# Altium footprint library DIP-CN  0607.PcbLib: 329 footprints (part 2 of 21)
Each footprint in its own frame and in the unit in brackets; x right, y up, seen from the top. Pads: shape width x height; smd on the part's side, far side on the other; paste and mask are expansions set on the pad; w line width, h text height; cw(c..) or ccw(c..) is an arc to the next point about the centre after c.
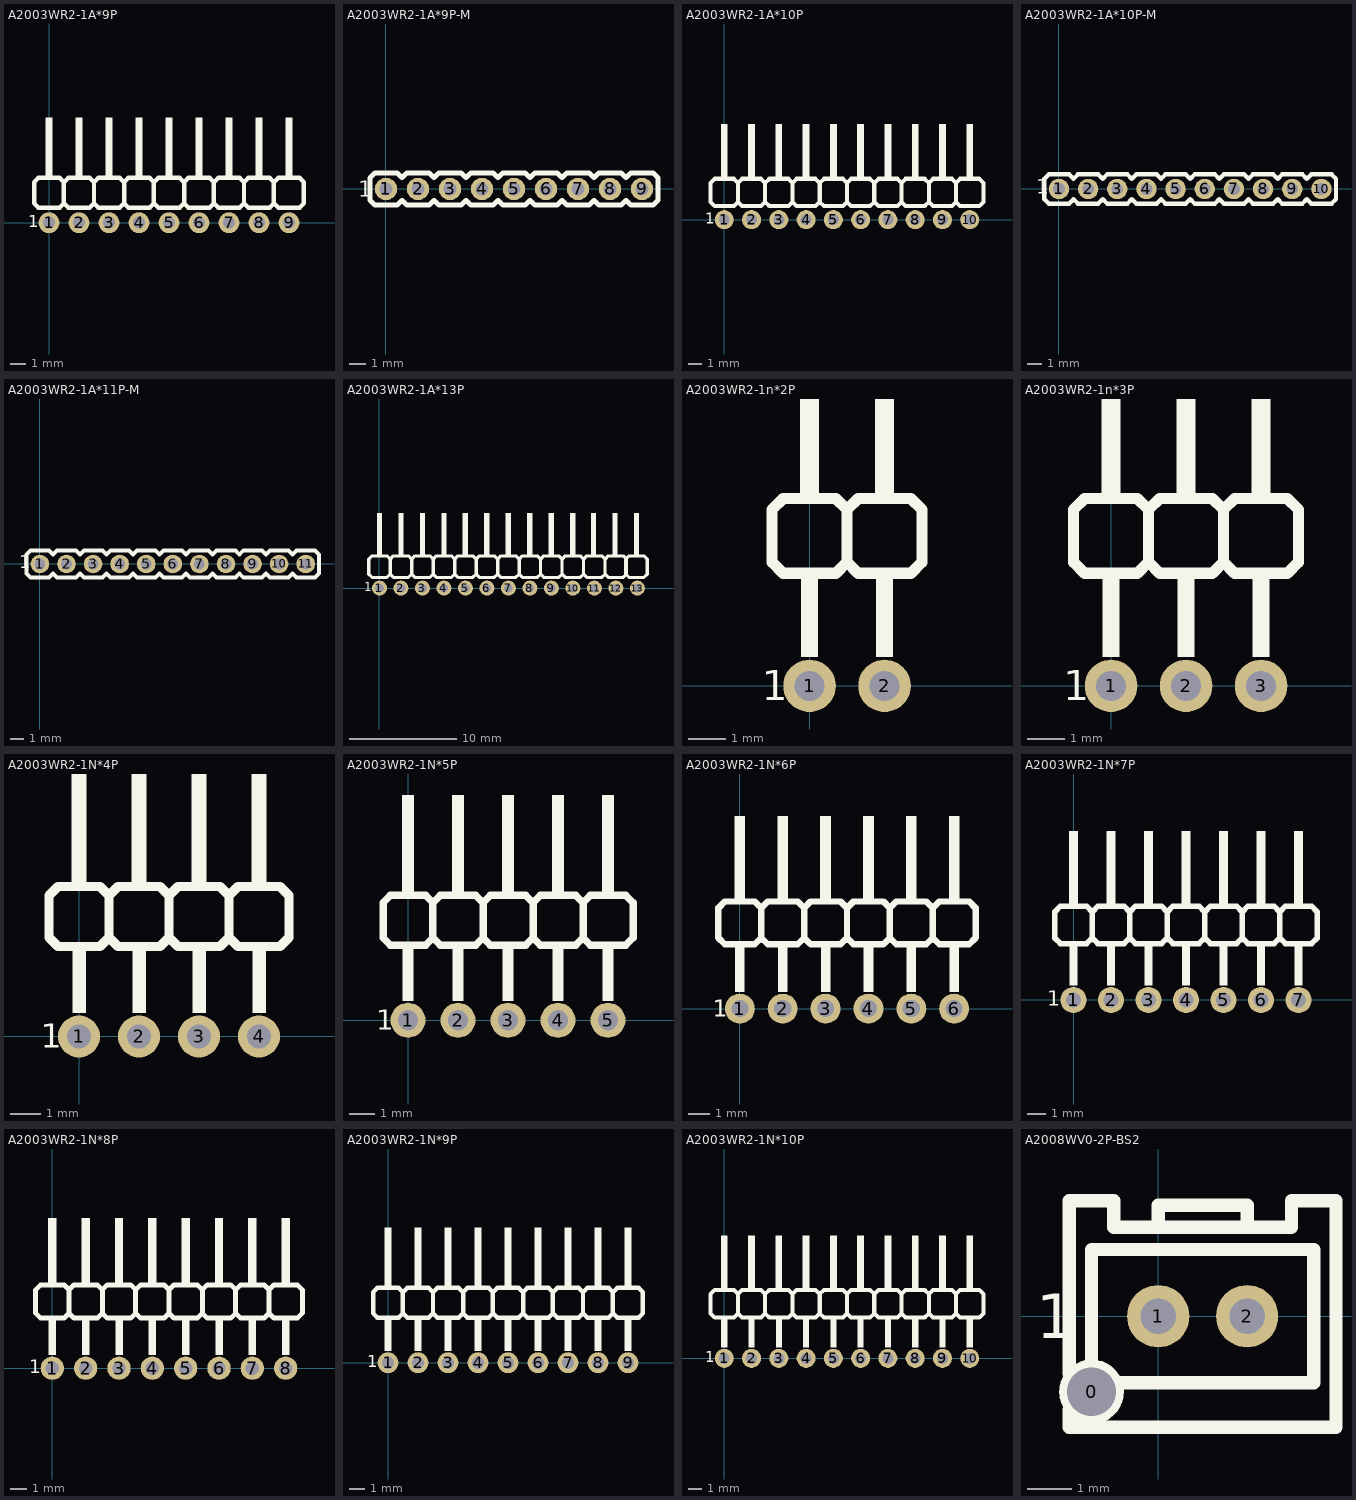
[diagram p1: the footprints below, top view; thin cyan lines are the x and y axes]

## A2003WR2-1A*9P [mm]
pads (9):
  round 1.4 hole 0.8: 1(0,0) 2(2,0) 3(4,0) 4(6,0) 5(8,0) 6(10,0) 7(12,0) 8(14,0) 9(16,0)
TopOverlay:
  region: 16.25,3 16.25,7 15.75,7 15.75,3
  region: 14.25,3 14.25,7 13.75,7 13.75,3
  region: 12.25,3 12.25,7 11.75,7 11.75,3
  region: 10.25,3 10.25,7 9.75,7 9.75,3
  region: 8.25,3 8.25,7 7.75,7 7.75,3
  region: 6.25,3 6.25,7 5.75,7 5.75,3
  region: 4.25,3 4.25,7 3.75,7 3.75,3
  region: 2.25,3 2.25,7 1.75,7 1.75,3
  region: 0.25,3 0.25,7 -0.25,7 -0.25,3
  lines w0.3: 1,1.3 1,2.7 ; 1,1.3 1.3,1 2.7,1 3,1.3 ; 1,1.3 0.7,1 -0.7,1 -1,1.3 -1,2.7 -0.7,3 0.7,3 1,2.7 ; 1,2.7 1.3,3 2.7,3 3,2.7 ; 3,1.3 3,2.7 ; 3,1.3 3.3,1 4.7,1 5,1.3 ; 3,2.7 3.3,3 4.7,3 5,2.7 ; 5,1.3 5,2.7 ; 5,1.3 5.3,1 6.7,1 7,1.3 ; 5,2.7 5.3,3 6.7,3 7,2.7 ; 7,1.3 7,2.7 ; 7,1.3 7.3,1 8.7,1 9,1.3 ; 7,2.7 7.3,3 8.7,3 9,2.7 ; 9,1.3 9,2.7 ; 9,1.3 9.3,1 10.7,1 11,1.3 ; 9,2.7 9.3,3 10.7,3 11,2.7 ; 11,1.3 11,2.7 ; 11,1.3 11.3,1 12.7,1 13,1.3 ; 11,2.7 11.3,3 12.7,3 13,2.7 ; 13,1.3 13,2.7 ; 13,1.3 13.3,1 14.7,1 15,1.3 ; 13,2.7 13.3,3 14.7,3 15,2.7 ; 15,1.3 15,2.7 ; 15,1.3 15.3,1 16.7,1 17,1.3 17,2.7 16.7,3 15.3,3 15,2.7
  text "1" at -1.4,-0.3 h0.8
BottomOverlay:
  lines w0.3: 1,-0.75 1,0.75 ; 3,-0.75 3,0.75 ; 5,-0.75 5,0.75 ; 7,-0.75 7,0.75 ; 9,-0.75 9,0.75 ; 11,-0.75 11,0.75 ; 13,-0.75 13,0.75 ; 15,-0.75 15,0.75

## A2003WR2-1A*9P-M [mm]
pads (9):
  round 1.4 hole 0.8: 1(0,0) 2(2,0) 3(4,0) 4(6,0) 5(8,0) 6(10,0) 7(12,0) 8(14,0) 9(16,0)
TopOverlay:
  lines w0.3: -1,-0.7 -0.7,-1 0.7,-1 1,-0.7 1.3,-1 2.7,-1 3,-0.7 3.3,-1 4.7,-1 5,-0.7 5.3,-1 6.7,-1 7,-0.7 7.3,-1 8.7,-1 9,-0.7 9.3,-1 10.7,-1 11,-0.7 11.3,-1 12.7,-1 13,-0.7 13.3,-1 14.7,-1 15,-0.7 15.3,-1 16.7,-1 17,-0.7 17,0.7 16.7,1 15.3,1 15,0.7 14.7,1 13.3,1 13,0.7 12.7,1 11.3,1 11,0.7 10.7,1 9.3,1 9,0.7 8.7,1 7.3,1 7,0.7 6.7,1 5.3,1 5,0.7 4.7,1 3.3,1 3,0.7 2.7,1 1.3,1 1,0.7 0.7,1 -0.7,1 -1,0.7 -1,-0.7
  text "1" at -1.75,-0.5 h1
BottomOverlay:
  lines w0.3: 1,-0.75 1,0.75 ; 3,-0.75 3,0.75 ; 5,-0.75 5,0.75 ; 7,-0.75 7,0.75 ; 9,-0.75 9,0.75 ; 11,-0.75 11,0.75 ; 13,-0.75 13,0.75 ; 15,-0.75 15,0.75

## A2003WR2-1A*10P [mm]
pads (10):
  round 1.4 hole 0.8: 1(0,0) 2(2,0) 3(4,0) 4(6,0) 5(8,0) 6(10,0) 7(12,0) 8(14,0) 9(16,0) 10(18,0)
TopOverlay:
  region: 0.25,3 0.25,7 -0.25,7 -0.25,3
  region: 2.25,3 2.25,7 1.75,7 1.75,3
  region: 4.25,3 4.25,7 3.75,7 3.75,3
  region: 6.25,3 6.25,7 5.75,7 5.75,3
  region: 8.25,3 8.25,7 7.75,7 7.75,3
  region: 10.25,3 10.25,7 9.75,7 9.75,3
  region: 12.25,3 12.25,7 11.75,7 11.75,3
  region: 14.25,3 14.25,7 13.75,7 13.75,3
  region: 16.25,3 16.25,7 15.75,7 15.75,3
  region: 18.25,3 18.25,7 17.75,7 17.75,3
  lines w0.3: 1,1.3 0.7,1 -0.7,1 -1,1.3 -1,2.7 -0.7,3 0.7,3 1,2.7 ; 1,1.3 1,2.7 ; 1,1.3 1.3,1 2.7,1 3,1.3 ; 1,2.7 1.3,3 2.7,3 3,2.7 ; 3,1.3 3.3,1 4.7,1 5,1.3 ; 3,1.3 3,2.7 ; 3,2.7 3.3,3 4.7,3 5,2.7 ; 5,1.3 5,2.7 ; 5,1.3 5.3,1 6.7,1 7,1.3 ; 5,2.7 5.3,3 6.7,3 7,2.7 ; 7,1.3 7.3,1 8.7,1 9,1.3 ; 7,1.3 7,2.7 ; 7,2.7 7.3,3 8.7,3 9,2.7 ; 9,1.3 9.3,1 10.7,1 11,1.3 ; 9,1.3 9,2.7 ; 9,2.7 9.3,3 10.7,3 11,2.7 ; 11,1.3 11.3,1 12.7,1 13,1.3 ; 11,1.3 11,2.7 ; 11,2.7 11.3,3 12.7,3 13,2.7 ; 13,1.3 13.3,1 14.7,1 15,1.3 ; 13,1.3 13,2.7 ; 13,2.7 13.3,3 14.7,3 15,2.7 ; 15,1.3 15,2.7 ; 15,1.3 15.3,1 16.7,1 17,1.3 ; 15,2.7 15.3,3 16.7,3 17,2.7 ; 17,1.3 17,2.7 ; 17,1.3 17.3,1 18.7,1 19,1.3 19,2.7 18.7,3 17.3,3 17,2.7
  text "1" at -1.4,-0.3 h0.8
BottomOverlay:
  lines w0.3: 1,-0.75 1,0.75 ; 3,-0.75 3,0.75 ; 5,-0.75 5,0.75 ; 7,-0.75 7,0.75 ; 9,-0.75 9,0.75 ; 11,-0.75 11,0.75 ; 13,-0.75 13,0.75 ; 15,-0.75 15,0.75 ; 17,-0.75 17,0.75

## A2003WR2-1A*10P-M [mm]
pads (10):
  round 1.4 hole 0.8: 1(0,0) 2(2,0) 3(4,0) 4(6,0) 5(8,0) 6(10,0) 7(12,0) 8(14,0) 9(16,0) 10(18,0)
TopOverlay:
  lines w0.3: -1,-0.7 -1,0.7 -0.7,1 0.7,1 1,0.7 1.3,1 2.7,1 3,0.7 3.3,1 4.7,1 5,0.7 5.3,1 6.7,1 7,0.7 7.3,1 8.7,1 9,0.7 9.3,1 10.7,1 11,0.7 11.3,1 12.7,1 13,0.7 13.3,1 14.7,1 15,0.7 15.3,1 16.7,1 17,0.7 17.3,1 18.7,1 19,0.7 19,-0.7 18.7,-1 17.3,-1 17,-0.7 16.7,-1 15.3,-1 15,-0.7 14.7,-1 13.3,-1 13,-0.7 12.7,-1 11.3,-1 11,-0.7 10.7,-1 9.3,-1 9,-0.7 8.7,-1 7.3,-1 7,-0.7 6.7,-1 5.3,-1 5,-0.7 4.7,-1 3.3,-1 3,-0.7 2.7,-1 1.3,-1 1,-0.7 0.7,-1 -0.7,-1 -1,-0.7
  text "1" at -1.575,-0.33 h1
BottomOverlay:
  lines w0.3: 1,-0.75 1,0.75 ; 3,-0.75 3,0.75 ; 5,-0.75 5,0.75 ; 7,-0.75 7,0.75 ; 9,-0.75 9,0.75 ; 11,-0.75 11,0.75 ; 13,-0.75 13,0.75 ; 15,-0.75 15,0.75 ; 17,-0.75 17,0.75

## A2003WR2-1A*11P-M [mm]
pads (11):
  round 1.4 hole 0.8: 1(0,0) 2(2,0) 3(4,0) 4(6,0) 5(8,0) 6(10,0) 7(12,0) 8(14,0) 9(16,0) 10(18,0) 11(20,0)
TopOverlay:
  lines w0.3: 18.7,-1 19,-0.7 ; 18.7,-1 17.3,-1 17,-0.7 16.7,-1 15.3,-1 15,-0.7 14.7,-1 13.3,-1 13,-0.7 12.7,-1 11.3,-1 11,-0.7 10.7,-1 9.3,-1 9,-0.7 8.7,-1 7.3,-1 7,-0.7 6.7,-1 5.3,-1 5,-0.7 4.7,-1 3.3,-1 3,-0.7 2.7,-1 1.3,-1 1,-0.7 0.7,-1 -0.7,-1 -1,-0.7 -1,0.7 -0.7,1 0.7,1 1,0.7 1.3,1 2.7,1 3,0.7 3.3,1 4.7,1 5,0.7 5.3,1 6.7,1 7,0.7 7.3,1 8.7,1 9,0.7 9.3,1 10.7,1 11,0.7 11.3,1 12.7,1 13,0.7 13.3,1 14.7,1 15,0.7 15.3,1 16.7,1 17,0.7 17.3,1 18.7,1 ; 18.7,-1 19,-0.7 ; 18.7,1 19,0.7 ; 18.7,1 19,0.7 ; 19,-0.7 19.3,-1 20.7,-1 21,-0.7 21,0.7 20.7,1 19.3,1 19,0.7
  text "1" at -1.575,-0.33 h1
BottomOverlay:
  lines w0.3: 1,-0.75 1,0.75 ; 3,-0.75 3,0.75 ; 5,-0.75 5,0.75 ; 7,-0.75 7,0.75 ; 9,-0.75 9,0.75 ; 11,-0.75 11,0.75 ; 13,-0.75 13,0.75 ; 15,-0.75 15,0.75 ; 17,-0.75 17,0.75 ; 19,-0.75 19,0.75

## A2003WR2-1A*13P [mm]
pads (13):
  round 1.4 hole 0.8: 1(0,0) 2(2,0) 3(4,0) 4(6,0) 5(8,0) 6(10,0) 7(12,0) 8(14,0) 9(16,0) 10(18,0) 11(20,0) 12(22,0) 13(24,0)
TopOverlay:
  region: 18.25,3 18.25,7 17.75,7 17.75,3
  region: 16.25,3 16.25,7 15.75,7 15.75,3
  region: 14.25,3 14.25,7 13.75,7 13.75,3
  region: 12.25,3 12.25,7 11.75,7 11.75,3
  region: 10.25,3 10.25,7 9.75,7 9.75,3
  region: 8.25,3 8.25,7 7.75,7 7.75,3
  region: 6.25,3 6.25,7 5.75,7 5.75,3
  region: 4.25,3 4.25,7 3.75,7 3.75,3
  region: 2.25,3 2.25,7 1.75,7 1.75,3
  region: 0.25,3 0.25,7 -0.25,7 -0.25,3
  region: 20.175,3 20.175,7 19.675,7 19.675,3
  region: 22.175,3 22.175,7 21.675,7 21.675,3
  region: 24.175,3 24.175,7 23.675,7 23.675,3
  lines w0.3: 1,1.3 1.3,1 2.7,1 3,1.3 ; 1,1.3 1,2.7 ; 1,1.3 0.7,1 -0.7,1 -1,1.3 -1,2.7 -0.7,3 0.7,3 1,2.7 ; 1,2.7 1.3,3 2.7,3 3,2.7 ; 3,1.3 3,2.7 ; 3,1.3 3.3,1 4.7,1 5,1.3 ; 3,2.7 3.3,3 4.7,3 5,2.7 ; 5,1.3 5.3,1 6.7,1 7,1.3 ; 5,1.3 5,2.7 ; 5,2.7 5.3,3 6.7,3 7,2.7 ; 7,1.3 7,2.7 ; 7,1.3 7.3,1 8.7,1 9,1.3 ; 7,2.7 7.3,3 8.7,3 9,2.7 ; 9,1.3 9,2.7 ; 9,1.3 9.3,1 10.7,1 11,1.3 ; 9,2.7 9.3,3 10.7,3 11,2.7 ; 11,1.3 11,2.7 ; 11,1.3 11.3,1 12.7,1 13,1.3 ; 11,2.7 11.3,3 12.7,3 13,2.7 ; 13,1.3 13,2.7 ; 13,1.3 13.3,1 14.7,1 15,1.3 ; 13,2.7 13.3,3 14.7,3 15,2.7 ; 15,1.3 15.3,1 16.7,1 17,1.3 ; 15,1.3 15,2.7 ; 15,2.7 15.3,3 16.7,3 17,2.7 ; 17,1.3 17.3,1 18.7,1 19,1.3 ; 17,1.3 17,2.7 ; 17,2.7 17.3,3 18.7,3 19,2.7 ; 19,1.3 19,2.7 ; 19,1.3 19,2.7 ; 19,1.3 19.3,1 20.7,1 21,1.3 ; 19,2.7 19.3,3 20.7,3 21,2.7 ; 21,1.3 21,2.7 ; 21,1.3 21,2.7 ; 21,1.3 21.3,1 22.7,1 23,1.3 23,2.7 22.7,3 21.3,3 21,2.7 ; 22.925,1.3 22.925,2.7 23.225,3 24.625,3 24.925,2.7 24.925,1.3 24.625,1 23.225,1 22.925,1.3
  text "1" at -1.4,-0.3 h0.8
BottomOverlay:
  lines w0.3: 1,-0.75 1,0.75 ; 3,-0.75 3,0.75 ; 5,-0.75 5,0.75 ; 7,-0.75 7,0.75 ; 9,-0.75 9,0.75 ; 11,-0.75 11,0.75 ; 13,-0.75 13,0.75 ; 15,-0.75 15,0.75 ; 17,-0.75 17,0.75 ; 19,-0.75 19,0.75 ; 21,-0.75 21,0.75 ; 23,-0.75 23,0.75

## A2003WR2-1n*2P [mm]
pads (2):
  round 1.4 hole 0.8: 1(0,0) 2(2,0)
TopOverlay:
  region: 0.225,3 -0.225,3 -0.225,0.775 0.225,0.775
  region: 2.225,3 1.775,3 1.775,0.775 2.225,0.775
  region: 0.25,5 0.25,9 -0.25,9 -0.25,5
  region: 2.25,5 2.25,9 1.75,9 1.75,5
  lines w0.3: 1,3.3 0.7,3 -0.7,3 -1,3.3 -1,4.7 -0.7,5 0.7,5 1,4.7 ; 1,3.3 1,4.7 ; 1,3.3 1.3,3 2.7,3 3,3.3 3,4.7 2.7,5 1.3,5 1,4.7
  text "1" at -1.27,-0.381 h0.8
BottomOverlay:
  lines w0.3: 1,-0.75 1,0.75

## A2003WR2-1n*3P [mm]
pads (3):
  round 1.4 hole 0.8: 1(0,0) 2(2,0) 3(4,0)
TopOverlay:
  region: 4.25,5 4.25,9 3.75,9 3.75,5
  region: 2.25,5 2.25,9 1.75,9 1.75,5
  region: 0.25,5 0.25,9 -0.25,9 -0.25,5
  region: 0.225,3 -0.225,3 -0.225,0.775 0.225,0.775
  region: 2.225,3 1.775,3 1.775,0.775 2.225,0.775
  region: 4.225,3 3.775,3 3.775,0.775 4.225,0.775
  lines w0.3: 1,3.3 0.7,3 -0.7,3 -1,3.3 -1,4.7 -0.7,5 0.7,5 1,4.7 ; 1,3.3 1,4.7 ; 1,3.3 1.3,3 2.7,3 3,3.3 ; 1,4.7 1.3,5 2.7,5 3,4.7 ; 3,3.3 3.3,3 4.7,3 5,3.3 5,4.7 4.7,5 3.3,5 3,4.7 ; 3,3.3 3,4.7
  text "1" at -1.27,-0.381 h0.8
BottomOverlay:
  lines w0.3: 1,-0.75 1,0.75 ; 3,-0.75 3,0.75

## A2003WR2-1N*4P [mm]
pads (4):
  round 1.4 hole 0.8: 1(0,0) 2(2,0) 3(4,0) 4(6,0)
TopOverlay:
  region: 6.25,5 6.25,9 5.75,9 5.75,5
  region: 4.25,5 4.25,9 3.75,9 3.75,5
  region: 2.25,5 2.25,9 1.75,9 1.75,5
  region: 0.25,5 0.25,9 -0.25,9 -0.25,5
  region: 0.225,3 -0.225,3 -0.225,0.775 0.225,0.775
  region: 2.225,3 1.775,3 1.775,0.775 2.225,0.775
  region: 4.225,3 3.775,3 3.775,0.775 4.225,0.775
  region: 6.225,3 5.775,3 5.775,0.775 6.225,0.775
  lines w0.3: 1,3.3 0.7,3 -0.7,3 -1,3.3 -1,4.7 -0.7,5 0.7,5 1,4.7 ; 1,3.3 1,4.7 ; 1,3.3 1.3,3 2.7,3 3,3.3 ; 1,4.7 1.3,5 2.7,5 3,4.7 ; 3,3.3 3.3,3 4.7,3 5,3.3 ; 3,3.3 3,4.7 ; 3,4.7 3.3,5 4.7,5 5,4.7 ; 5,3.3 5,4.7 ; 5,3.3 5.3,3 6.7,3 7,3.3 7,4.7 6.7,5 5.3,5 5,4.7
  text "1" at -1.27,-0.381 h0.8
BottomOverlay:
  lines w0.3: 1,-0.75 1,0.75 ; 3,-0.75 3,0.75 ; 5,-0.75 5,0.75

## A2003WR2-1N*5P [mm]
pads (5):
  round 1.4 hole 0.8: 1(0,0) 2(2,0) 3(4,0) 4(6,0) 5(8,0)
TopOverlay:
  region: 8.25,5 8.25,9 7.75,9 7.75,5
  region: 6.25,5 6.25,9 5.75,9 5.75,5
  region: 4.25,5 4.25,9 3.75,9 3.75,5
  region: 2.25,5 2.25,9 1.75,9 1.75,5
  region: 0.25,5 0.25,9 -0.25,9 -0.25,5
  region: 0.225,3 -0.225,3 -0.225,0.775 0.225,0.775
  region: 2.225,3 1.775,3 1.775,0.775 2.225,0.775
  region: 4.225,3 3.775,3 3.775,0.775 4.225,0.775
  region: 6.225,3 5.775,3 5.775,0.775 6.225,0.775
  region: 8.225,3 7.775,3 7.775,0.775 8.225,0.775
  lines w0.3: 1,3.3 0.7,3 -0.7,3 -1,3.3 -1,4.7 -0.7,5 0.7,5 1,4.7 ; 1,3.3 1,4.7 ; 1,3.3 1.3,3 2.7,3 3,3.3 ; 1,4.7 1.3,5 2.7,5 3,4.7 ; 3,3.3 3.3,3 4.7,3 5,3.3 ; 3,3.3 3,4.7 ; 3,4.7 3.3,5 4.7,5 5,4.7 ; 5,3.3 5,4.7 ; 5,3.3 5.3,3 6.7,3 7,3.3 ; 5,4.7 5.3,5 6.7,5 7,4.7 ; 7,3.3 7.3,3 8.7,3 9,3.3 9,4.7 8.7,5 7.3,5 7,4.7 ; 7,3.3 7,4.7
  text "1" at -1.27,-0.381 h0.8
BottomOverlay:
  lines w0.3: 1,-0.75 1,0.75 ; 3,-0.75 3,0.75 ; 5,-0.75 5,0.75 ; 7,-0.75 7,0.75

## A2003WR2-1N*6P [mm]
pads (6):
  round 1.4 hole 0.8: 1(0,0) 2(2,0) 3(4,0) 4(6,0) 5(8,0) 6(10,0)
TopOverlay:
  region: 10.25,5 10.25,9 9.75,9 9.75,5
  region: 8.25,5 8.25,9 7.75,9 7.75,5
  region: 6.25,5 6.25,9 5.75,9 5.75,5
  region: 4.25,5 4.25,9 3.75,9 3.75,5
  region: 2.25,5 2.25,9 1.75,9 1.75,5
  region: 0.25,5 0.25,9 -0.25,9 -0.25,5
  region: 0.225,3 -0.225,3 -0.225,0.775 0.225,0.775
  region: 2.225,3 1.775,3 1.775,0.775 2.225,0.775
  region: 4.225,3 3.775,3 3.775,0.775 4.225,0.775
  region: 6.225,3 5.775,3 5.775,0.775 6.225,0.775
  region: 8.225,3 7.775,3 7.775,0.775 8.225,0.775
  region: 10.225,3 9.775,3 9.775,0.775 10.225,0.775
  lines w0.3: 1,3.3 0.7,3 -0.7,3 -1,3.3 -1,4.7 -0.7,5 0.7,5 1,4.7 ; 1,3.3 1,4.7 ; 1,3.3 1.3,3 2.7,3 3,3.3 ; 1,4.7 1.3,5 2.7,5 3,4.7 ; 3,3.3 3.3,3 4.7,3 5,3.3 ; 3,3.3 3,4.7 ; 3,4.7 3.3,5 4.7,5 5,4.7 ; 5,3.3 5,4.7 ; 5,3.3 5.3,3 6.7,3 7,3.3 ; 5,4.7 5.3,5 6.7,5 7,4.7 ; 7,3.3 7.3,3 8.7,3 9,3.3 ; 7,3.3 7,4.7 ; 7,4.7 7.3,5 8.7,5 9,4.7 ; 9,3.3 9.3,3 10.7,3 11,3.3 11,4.7 10.7,5 9.3,5 9,4.7 ; 9,3.3 9,4.7
  text "1" at -1.27,-0.381 h0.8
BottomOverlay:
  lines w0.3: 1,-0.75 1,0.75 ; 3,-0.75 3,0.75 ; 5,-0.75 5,0.75 ; 7,-0.75 7,0.75 ; 9,-0.75 9,0.75

## A2003WR2-1N*7P [mm]
pads (7):
  round 1.4 hole 0.8: 1(0,0) 2(2,0) 3(4,0) 4(6,0) 5(8,0) 6(10,0) 7(12,0)
TopOverlay:
  region: 0.25,5 0.25,9 -0.25,9 -0.25,5
  region: 2.25,5 2.25,9 1.75,9 1.75,5
  region: 4.25,5 4.25,9 3.75,9 3.75,5
  region: 6.25,5 6.25,9 5.75,9 5.75,5
  region: 8.25,5 8.25,9 7.75,9 7.75,5
  region: 10.25,5 10.25,9 9.75,9 9.75,5
  region: 12.25,5 12.25,9 11.75,9 11.75,5
  region: 0.225,3 -0.225,3 -0.225,0.775 0.225,0.775
  region: 2.225,3 1.775,3 1.775,0.775 2.225,0.775
  region: 4.225,3 3.775,3 3.775,0.775 4.225,0.775
  region: 6.225,3 5.775,3 5.775,0.775 6.225,0.775
  region: 8.225,3 7.775,3 7.775,0.775 8.225,0.775
  region: 10.225,3 9.775,3 9.775,0.775 10.225,0.775
  region: 12.225,3 11.775,3 11.775,0.775 12.225,0.775
  lines w0.3: 1,3.3 1.3,3 2.7,3 3,3.3 ; 1,3.3 1,4.7 ; 1,3.3 0.7,3 -0.7,3 -1,3.3 -1,4.7 -0.7,5 0.7,5 1,4.7 ; 1,4.7 1.3,5 2.7,5 3,4.7 ; 3,3.3 3,4.7 ; 3,3.3 3.3,3 4.7,3 5,3.3 ; 3,4.7 3.3,5 4.7,5 5,4.7 ; 5,3.3 5.3,3 6.7,3 7,3.3 ; 5,3.3 5,4.7 ; 5,4.7 5.3,5 6.7,5 7,4.7 ; 7,3.3 7,4.7 ; 7,3.3 7.3,3 8.7,3 9,3.3 ; 7,4.7 7.3,5 8.7,5 9,4.7 ; 9,3.3 9,4.7 ; 9,3.3 9.3,3 10.7,3 11,3.3 ; 9,4.7 9.3,5 10.7,5 11,4.7 ; 11,3.3 11,4.7 ; 11,3.3 11.3,3 12.7,3 13,3.3 13,4.7 12.7,5 11.3,5 11,4.7
  text "1" at -1.4,-0.3 h0.8
BottomOverlay:
  lines w0.3: 1,-0.75 1,0.75 ; 3,-0.75 3,0.75 ; 5,-0.75 5,0.75 ; 7,-0.75 7,0.75 ; 9,-0.75 9,0.75 ; 11,-0.75 11,0.75

## A2003WR2-1N*8P [mm]
pads (8):
  round 1.4 hole 0.8: 1(0,0) 2(2,0) 3(4,0) 4(6,0) 5(8,0) 6(10,0) 7(12,0) 8(14,0)
TopOverlay:
  region: 0.25,5 0.25,9 -0.25,9 -0.25,5
  region: 2.25,5 2.25,9 1.75,9 1.75,5
  region: 4.25,5 4.25,9 3.75,9 3.75,5
  region: 6.25,5 6.25,9 5.75,9 5.75,5
  region: 8.25,5 8.25,9 7.75,9 7.75,5
  region: 10.25,5 10.25,9 9.75,9 9.75,5
  region: 12.25,5 12.25,9 11.75,9 11.75,5
  region: 14.25,5 14.25,9 13.75,9 13.75,5
  region: 0.225,3 -0.225,3 -0.225,0.775 0.225,0.775
  region: 2.225,3 1.775,3 1.775,0.775 2.225,0.775
  region: 4.225,3 3.775,3 3.775,0.775 4.225,0.775
  region: 6.225,3 5.775,3 5.775,0.775 6.225,0.775
  region: 8.225,3 7.775,3 7.775,0.775 8.225,0.775
  region: 10.225,3 9.775,3 9.775,0.775 10.225,0.775
  region: 12.225,3 11.775,3 11.775,0.775 12.225,0.775
  region: 14.225,3 13.775,3 13.775,0.775 14.225,0.775
  lines w0.3: 1,3.3 0.7,3 -0.7,3 -1,3.3 -1,4.7 -0.7,5 0.7,5 1,4.7 ; 1,3.3 1,4.7 ; 1,3.3 1.3,3 2.7,3 3,3.3 ; 1,4.7 1.3,5 2.7,5 3,4.7 ; 3,3.3 3.3,3 4.7,3 5,3.3 ; 3,3.3 3,4.7 ; 3,4.7 3.3,5 4.7,5 5,4.7 ; 5,3.3 5,4.7 ; 5,3.3 5.3,3 6.7,3 7,3.3 ; 5,4.7 5.3,5 6.7,5 7,4.7 ; 7,3.3 7.3,3 8.7,3 9,3.3 ; 7,3.3 7,4.7 ; 7,4.7 7.3,5 8.7,5 9,4.7 ; 9,3.3 9.3,3 10.7,3 11,3.3 ; 9,3.3 9,4.7 ; 9,4.7 9.3,5 10.7,5 11,4.7 ; 11,3.3 11.3,3 12.7,3 13,3.3 ; 11,3.3 11,4.7 ; 11,4.7 11.3,5 12.7,5 13,4.7 ; 13,3.3 13.3,3 14.7,3 15,3.3 15,4.7 14.7,5 13.3,5 13,4.7 ; 13,3.3 13,4.7
  text "1" at -1.4,-0.3 h0.8
BottomOverlay:
  lines w0.3: 1,-0.75 1,0.75 ; 3,-0.75 3,0.75 ; 5,-0.75 5,0.75 ; 7,-0.75 7,0.75 ; 9,-0.75 9,0.75 ; 11,-0.75 11,0.75 ; 13,-0.75 13,0.75

## A2003WR2-1N*9P [mm]
pads (9):
  round 1.4 hole 0.8: 1(0,0) 2(2,0) 3(4,0) 4(6,0) 5(8,0) 6(10,0) 7(12,0) 8(14,0) 9(16,0)
TopOverlay:
  region: 16.25,5 16.25,9 15.75,9 15.75,5
  region: 14.25,5 14.25,9 13.75,9 13.75,5
  region: 12.25,5 12.25,9 11.75,9 11.75,5
  region: 10.25,5 10.25,9 9.75,9 9.75,5
  region: 8.25,5 8.25,9 7.75,9 7.75,5
  region: 6.25,5 6.25,9 5.75,9 5.75,5
  region: 4.25,5 4.25,9 3.75,9 3.75,5
  region: 2.25,5 2.25,9 1.75,9 1.75,5
  region: 0.25,5 0.25,9 -0.25,9 -0.25,5
  region: 0.225,3 -0.225,3 -0.225,0.775 0.225,0.775
  region: 2.225,3 1.775,3 1.775,0.775 2.225,0.775
  region: 4.225,3 3.775,3 3.775,0.775 4.225,0.775
  region: 6.225,3 5.775,3 5.775,0.775 6.225,0.775
  region: 8.225,3 7.775,3 7.775,0.775 8.225,0.775
  region: 10.225,3 9.775,3 9.775,0.775 10.225,0.775
  region: 12.225,3 11.775,3 11.775,0.775 12.225,0.775
  region: 14.225,3 13.775,3 13.775,0.775 14.225,0.775
  region: 16.225,3 15.775,3 15.775,0.775 16.225,0.775
  lines w0.3: 1,3.3 1,4.7 ; 1,3.3 1.3,3 2.7,3 3,3.3 ; 1,3.3 0.7,3 -0.7,3 -1,3.3 -1,4.7 -0.7,5 0.7,5 1,4.7 ; 1,4.7 1.3,5 2.7,5 3,4.7 ; 3,3.3 3,4.7 ; 3,3.3 3.3,3 4.7,3 5,3.3 ; 3,4.7 3.3,5 4.7,5 5,4.7 ; 5,3.3 5,4.7 ; 5,3.3 5.3,3 6.7,3 7,3.3 ; 5,4.7 5.3,5 6.7,5 7,4.7 ; 7,3.3 7,4.7 ; 7,3.3 7.3,3 8.7,3 9,3.3 ; 7,4.7 7.3,5 8.7,5 9,4.7 ; 9,3.3 9,4.7 ; 9,3.3 9.3,3 10.7,3 11,3.3 ; 9,4.7 9.3,5 10.7,5 11,4.7 ; 11,3.3 11,4.7 ; 11,3.3 11.3,3 12.7,3 13,3.3 ; 11,4.7 11.3,5 12.7,5 13,4.7 ; 13,3.3 13,4.7 ; 13,3.3 13.3,3 14.7,3 15,3.3 ; 13,4.7 13.3,5 14.7,5 15,4.7 ; 15,3.3 15,4.7 ; 15,3.3 15.3,3 16.7,3 17,3.3 17,4.7 16.7,5 15.3,5 15,4.7
  text "1" at -1.4,-0.3 h0.8
BottomOverlay:
  lines w0.3: 1,-0.75 1,0.75 ; 3,-0.75 3,0.75 ; 5,-0.75 5,0.75 ; 7,-0.75 7,0.75 ; 9,-0.75 9,0.75 ; 11,-0.75 11,0.75 ; 13,-0.75 13,0.75 ; 15,-0.75 15,0.75

## A2003WR2-1N*10P [mm]
pads (10):
  round 1.4 hole 0.8: 1(0,0) 2(2,0) 3(4,0) 4(6,0) 5(8,0) 6(10,0) 7(12,0) 8(14,0) 9(16,0) 10(18,0)
TopOverlay:
  region: 18.225,3 17.775,3 17.775,0.775 18.225,0.775
  region: 16.225,3 15.775,3 15.775,0.775 16.225,0.775
  region: 14.225,3 13.775,3 13.775,0.775 14.225,0.775
  region: 12.225,3 11.775,3 11.775,0.775 12.225,0.775
  region: 10.225,3 9.775,3 9.775,0.775 10.225,0.775
  region: 8.225,3 7.775,3 7.775,0.775 8.225,0.775
  region: 6.225,3 5.775,3 5.775,0.775 6.225,0.775
  region: 4.225,3 3.775,3 3.775,0.775 4.225,0.775
  region: 2.225,3 1.775,3 1.775,0.775 2.225,0.775
  region: 0.225,3 -0.225,3 -0.225,0.775 0.225,0.775
  region: 0.25,5 0.25,9 -0.25,9 -0.25,5
  region: 2.25,5 2.25,9 1.75,9 1.75,5
  region: 4.25,5 4.25,9 3.75,9 3.75,5
  region: 6.25,5 6.25,9 5.75,9 5.75,5
  region: 8.25,5 8.25,9 7.75,9 7.75,5
  region: 10.25,5 10.25,9 9.75,9 9.75,5
  region: 12.25,5 12.25,9 11.75,9 11.75,5
  region: 14.25,5 14.25,9 13.75,9 13.75,5
  region: 16.25,5 16.25,9 15.75,9 15.75,5
  region: 18.25,5 18.25,9 17.75,9 17.75,5
  lines w0.3: 1,3.3 0.7,3 -0.7,3 -1,3.3 -1,4.7 -0.7,5 0.7,5 1,4.7 ; 1,3.3 1,4.7 ; 1,3.3 1.3,3 2.7,3 3,3.3 ; 1,4.7 1.3,5 2.7,5 3,4.7 ; 3,3.3 3.3,3 4.7,3 5,3.3 ; 3,3.3 3,4.7 ; 3,4.7 3.3,5 4.7,5 5,4.7 ; 5,3.3 5,4.7 ; 5,3.3 5.3,3 6.7,3 7,3.3 ; 5,4.7 5.3,5 6.7,5 7,4.7 ; 7,3.3 7.3,3 8.7,3 9,3.3 ; 7,3.3 7,4.7 ; 7,4.7 7.3,5 8.7,5 9,4.7 ; 9,3.3 9.3,3 10.7,3 11,3.3 ; 9,3.3 9,4.7 ; 9,4.7 9.3,5 10.7,5 11,4.7 ; 11,3.3 11.3,3 12.7,3 13,3.3 ; 11,3.3 11,4.7 ; 11,4.7 11.3,5 12.7,5 13,4.7 ; 13,3.3 13.3,3 14.7,3 15,3.3 ; 13,3.3 13,4.7 ; 13,4.7 13.3,5 14.7,5 15,4.7 ; 15,3.3 15,4.7 ; 15,3.3 15.3,3 16.7,3 17,3.3 ; 15,4.7 15.3,5 16.7,5 17,4.7 ; 17,3.3 17,4.7 ; 17,3.3 17.3,3 18.7,3 19,3.3 19,4.7 18.7,5 17.3,5 17,4.7
  text "1" at -1.4,-0.3 h0.8
BottomOverlay:
  lines w0.3: 1,-0.75 1,0.75 ; 3,-0.75 3,0.75 ; 5,-0.75 5,0.75 ; 7,-0.75 7,0.75 ; 9,-0.75 9,0.75 ; 11,-0.75 11,0.75 ; 13,-0.75 13,0.75 ; 15,-0.75 15,0.75 ; 17,-0.75 17,0.75

## A2008WV0-2P-BS2 [mm]
pads (3):
  round 1 hole 1.1 unplated: 0(-1.5,-1.7)
  round 1.4 hole 0.8: 1(0,0) 2(2,0)
TopOverlay:
  lines w0.2: -1.974,-2.111 cw(c-1.5,-1.7) -1.962,-2.124
  lines w0.3: -2,-2.1 -2,-2.5 4,-2.5 4,2.6 3,2.6 3,2 -1,2 -1,2.6 -2,2.6 -2,-1.3 ; -1.5,-1 -1.5,1.5 3.5,1.5 3.5,-1.5 -0.9,-1.5 ; 0,2 0,2.5 1.5,2.5 2,2.5 2,2
  text "1" at -2.75,-0.5 h1
BottomOverlay:
  lines w0.3: 1,-0.75 1,0.75